# EAGLE library part TCAN3413DDFR (library TCAN3413DDFR)
CAN Interface IC 3.3-V CAN FD transceiver with flexible IO and standby mode Source: Datasheet <https://www.ti.com/lit/gpn/tcan3413>
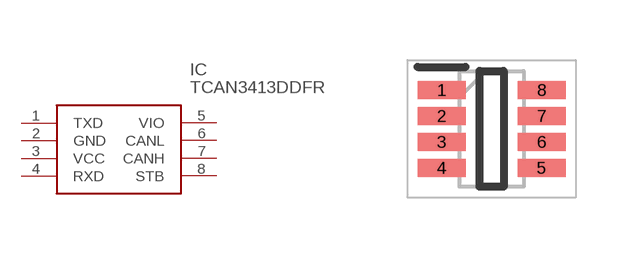
[diagram p0: symbol with the pads of SOT65P280X110-8N; footprint SOT65P280X110-8N]

Designator prefix IC

## TCAN3413DDFR (Arrow_Part_Number: TCAN3413DDFR; Arrow_Price-Stock: https://www.arrow.com/en/products/tcan3413ddfr/texas-instruments?region=nac; Description: CAN Interface IC 3.3-V CAN FD transceiver with flexible IO and standby mode; Height: 1.1mm; Manufacturer_Name: Texas Instruments; Manufacturer_Part_Number: TCAN3413DDFR; Mouser_Part_Number: 595-TCAN3413DDFR; Mouser_Price-Stock: https://www.mouser.co.uk/ProductDetail/Texas-Instruments/TCAN3413DDFR?qs=HFfMDpzxxd24T7a%252BDNN43w%3D%3D)  [SOT65P280X110-8N]
1  TXD
2  GND
3  VCC
4  RXD
5  VIO
6  CANL
7  CANH
8  STB

## Footprint SOT65P280X110-8N (pad centres in mm)
DDF0008A_(H=1.1mm)
smd 1.2 x 0.45: 1 -1.25,0.975; 2 -1.25,0.325; 3 -1.25,-0.325; 4 -1.25,-0.975; 5 1.25,-0.975; 6 1.25,-0.325; 7 1.25,0.325; 8 1.25,0.975